# Altium schematic symbol library Blueberry_sch.SchLib: 78 symbols
Pins are listed as number, name and electrical type; pins without a type are passive.

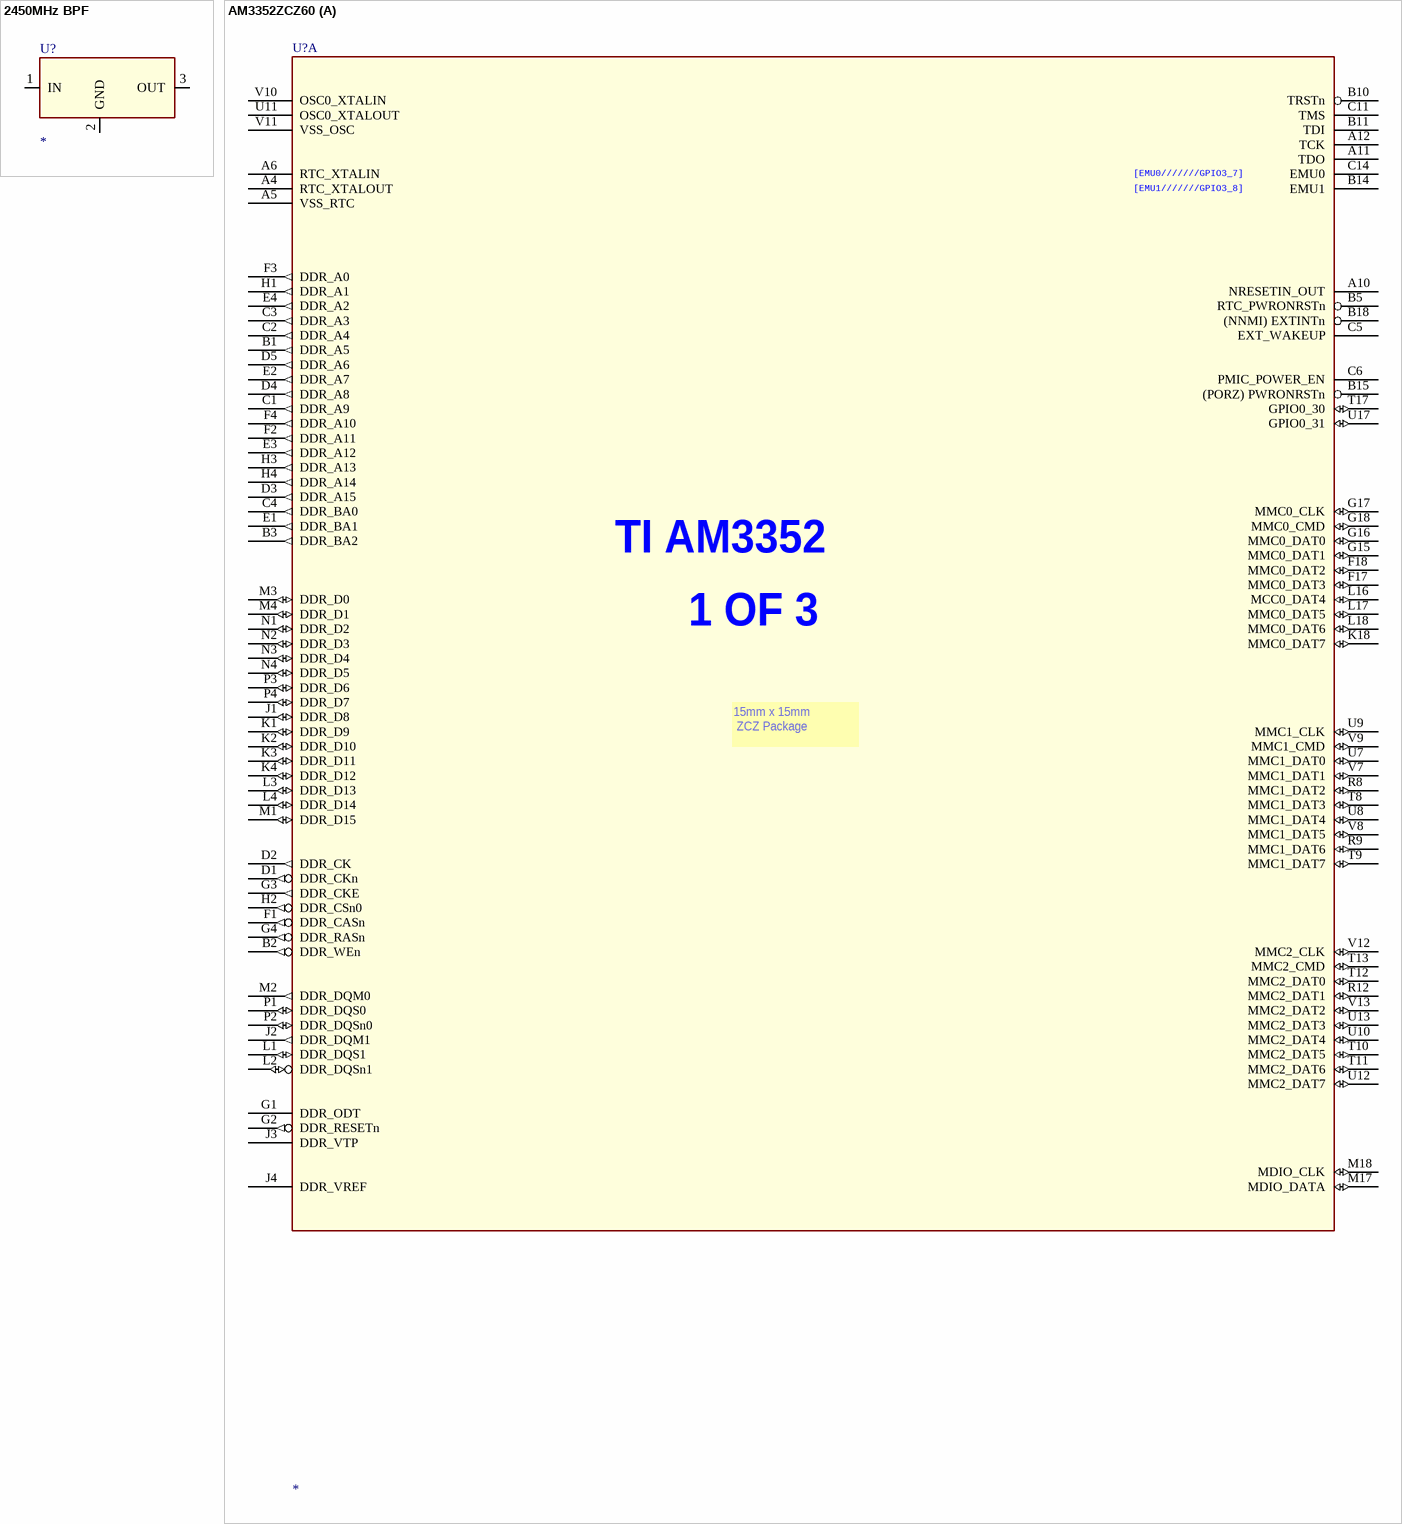
[diagram p0: symbols 2450MHz BPF to AM3352ZCZ60]

## 2450MHz BPF
designator U?
pins: 1 IN, 2 GND (power), 3 OUT

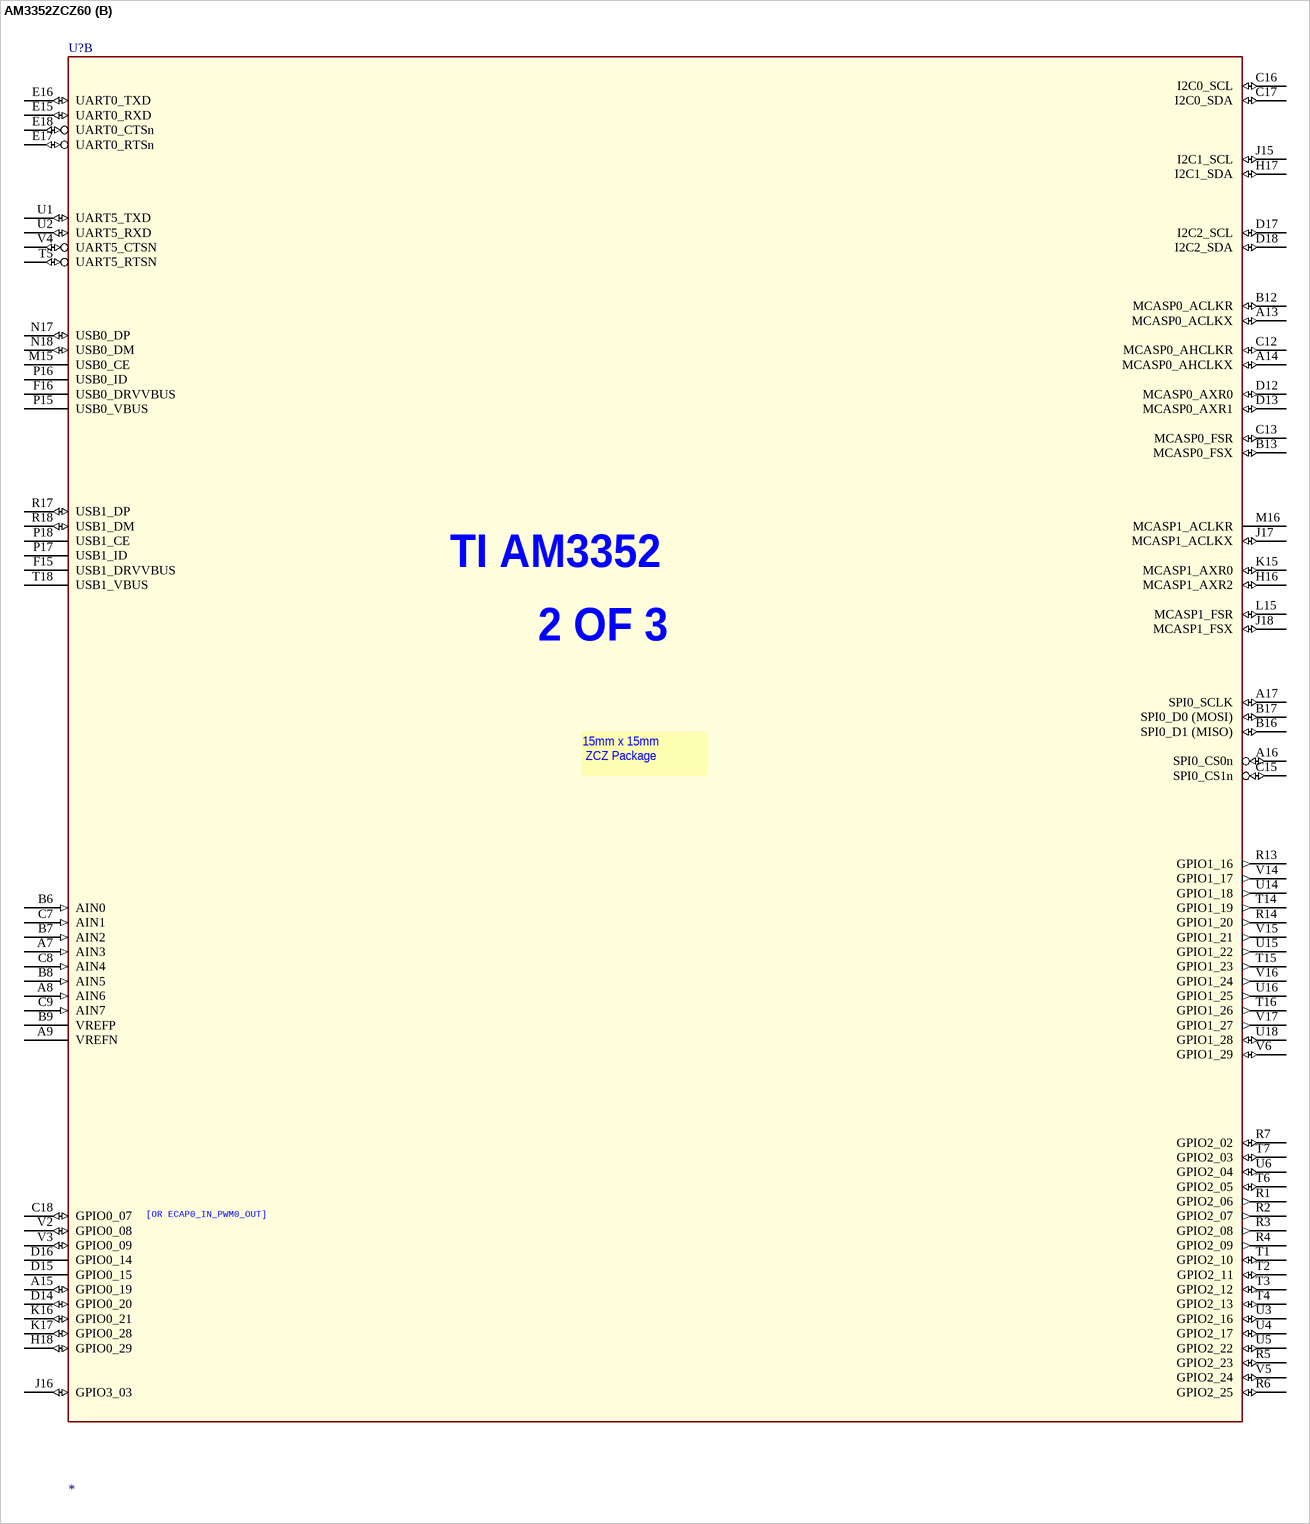
[diagram p1: symbol AM3352ZCZ60]

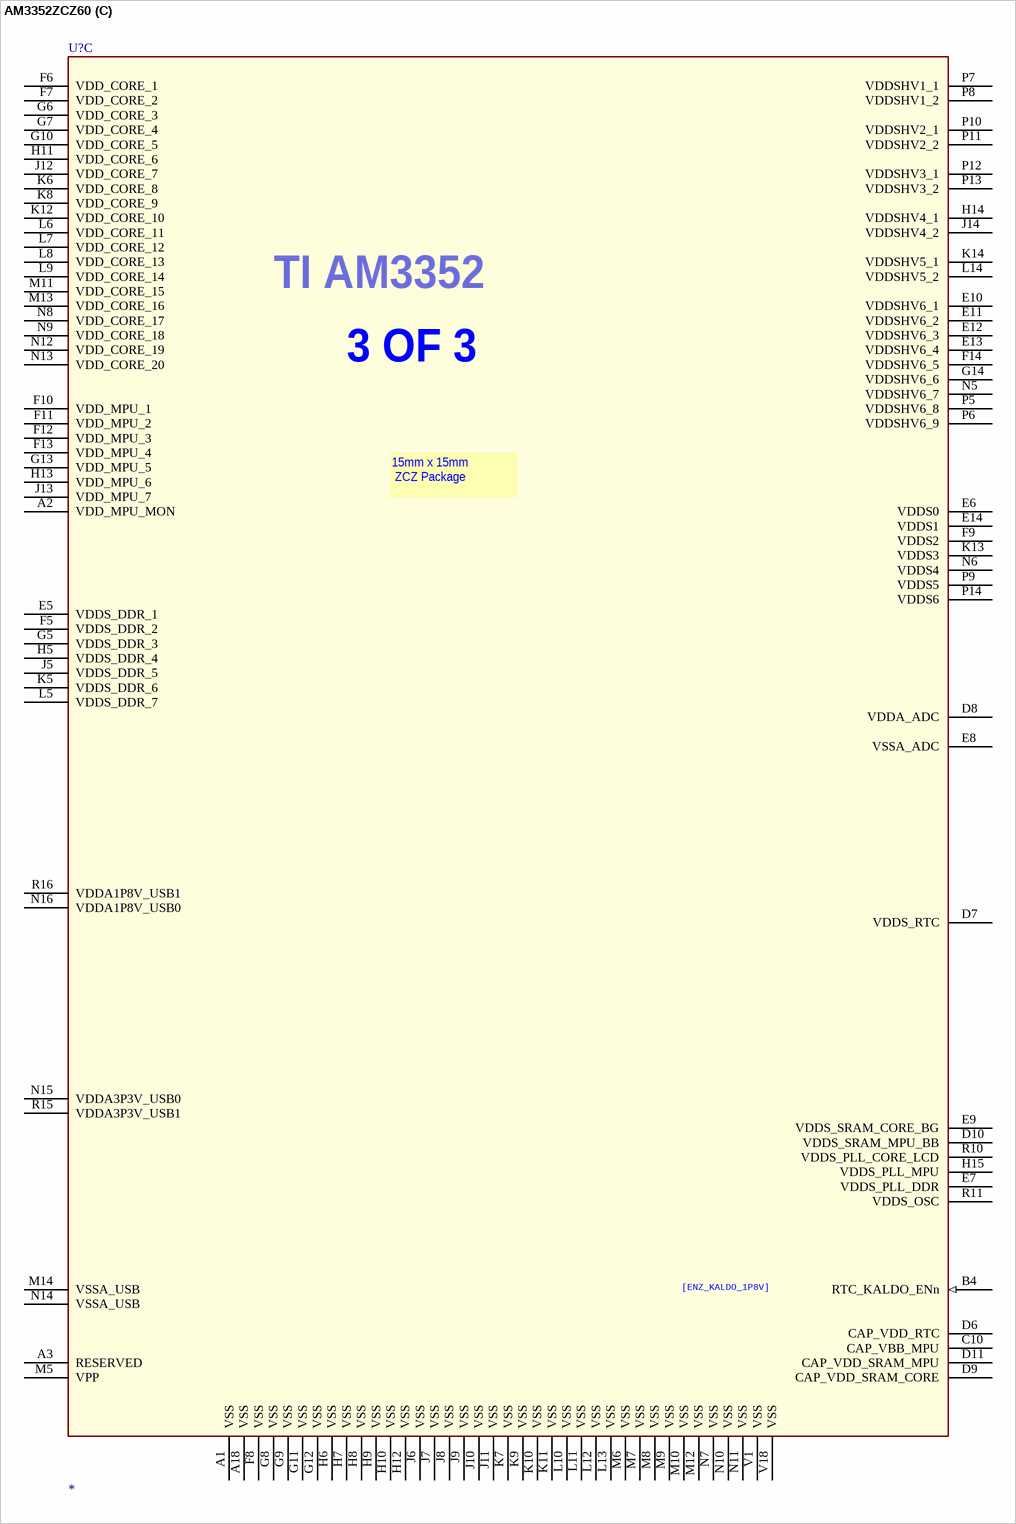
[diagram p2: symbol AM3352ZCZ60]

## AM3352ZCZ60
designator U?
SubArctic Cortex A8 Processor 15x15; TIIntPartnumber: 1A0242; MfrNum: AM335x 15x15 FBGA ZCE; Mfr: TI; PartName: AM335X_15x15; Cost10K: 10.00; Vendor: Arrow; Cost100: 10.00
footprint AM335x_bga_324_p80_15x15
part A pins: A4 RTC_XTALOUT, A5 VSS_RTC (power), A6 RTC_XTALIN, A10 NRESETIN_OUT, A11 TDO, A12 TCK, B1 DDR_A5 (out), B2 DDR_WEn (out), B3 DDR_BA2 (out), B5 RTC_PWRONRSTn, B10 TRSTn, B11 TDI, B14 EMU1, B15 (PORZ) PWRONRSTn, B18 (NNMI) EXTINTn, C1 DDR_A9 (out), C2 DDR_A4 (out), C3 DDR_A3 (out), C4 DDR_BA0 (out), C5 EXT_WAKEUP, C6 PMIC_POWER_EN, C11 TMS, C14 EMU0, D1 DDR_CKn (out), D2 DDR_CK (out), D3 DDR_A15 (out), D4 DDR_A8 (out), D5 DDR_A6 (out), E1 DDR_BA1 (out), E2 DDR_A7 (out), E3 DDR_A12 (out), E4 DDR_A2 (out), F1 DDR_CASn (out), F2 DDR_A11 (out), F3 DDR_A0 (out), F4 DDR_A10 (out), F17 MMC0_DAT3 (io), F18 MMC0_DAT2 (io), G1 DDR_ODT, G2 DDR_RESETn (out), G3 DDR_CKE (out), G4 DDR_RASn (out), G15 MMC0_DAT1 (io), G16 MMC0_DAT0 (io), G17 MMC0_CLK (io), G18 MMC0_CMD (io), H1 DDR_A1 (out), H2 DDR_CSn0 (out), H3 DDR_A13 (out), H4 DDR_A14 (out), J1 DDR_D8 (io), J2 DDR_DQM1 (out), J3 DDR_VTP, J4 DDR_VREF, K1 DDR_D9 (io), K2 DDR_D10 (io), K3 DDR_D11 (io), K4 DDR_D12 (io), K18 MMC0_DAT7 (io), L1 DDR_DQS1 (io), L2 DDR_DQSn1 (io), L3 DDR_D13 (io), L4 DDR_D14 (io), L16 MCC0_DAT4 (io), L17 MMC0_DAT5 (io), L18 MMC0_DAT6 (io), M1 DDR_D15 (io), M2 DDR_DQM0 (out), M3 DDR_D0 (io), M4 DDR_D1 (io), M17 MDIO_DATA (io), M18 MDIO_CLK (io), N1 DDR_D2 (io), N2 DDR_D3 (io), N3 DDR_D4 (io), N4 DDR_D5 (io), P1 DDR_DQS0 (io), P2 DDR_DQSn0 (io), P3 DDR_D6 (io), P4 DDR_D7 (io), R8 MMC1_DAT2 (io), R9 MMC1_DAT6 (io), R12 MMC2_DAT1 (io), T8 MMC1_DAT3 (io), T9 MMC1_DAT7 (io), T10 MMC2_DAT5 (io), T11 MMC2_DAT6 (io), T12 MMC2_DAT0 (io), T13 MMC2_CMD (io), T17 GPIO0_30 (io), U7 MMC1_DAT0 (io), U8 MMC1_DAT4 (io), U9 MMC1_CLK (io), U10 MMC2_DAT4 (io), U11 OSC0_XTALOUT, U12 MMC2_DAT7 (io), U13 MMC2_DAT3 (io), U17 GPIO0_31 (io), V7 MMC1_DAT1 (io), V8 MMC1_DAT5 (io), V9 MMC1_CMD (io), V10 OSC0_XTALIN, V11 VSS_OSC (power), V12 MMC2_CLK (io), V13 MMC2_DAT2 (io)
part B pins: A7 AIN3 (in), A8 AIN6 (in), A9 VREFN, A13 MCASP0_ACLKX (io), A14 MCASP0_AHCLKX (io), A15 GPIO0_19 (io), A16 SPI0_CS0n (io), A17 SPI0_SCLK (io), B6 AIN0 (in), B7 AIN2 (in), B8 AIN5 (in), B9 VREFP, B12 MCASP0_ACLKR (io), B13 MCASP0_FSX (io), B16 SPI0_D1 (MISO) (io), B17 SPI0_D0 (MOSI) (io), C7 AIN1 (in), C8 AIN4 (in), C9 AIN7 (in), C12 MCASP0_AHCLKR (io), C13 MCASP0_FSR (io), C15 SPI0_CS1n (io), C16 I2C0_SCL (io), C17 I2C0_SDA (io), C18 GPIO0_07 (io), D12 MCASP0_AXR0 (io), D13 MCASP0_AXR1 (io), D14 GPIO0_20 (io), D15 GPIO0_15, D16 GPIO0_14, D17 I2C2_SCL (io), D18 I2C2_SDA (io), E15 UART0_RXD (io), E16 UART0_TXD (io), E17 UART0_RTSn (io), E18 UART0_CTSn (io), F15 USB1_DRVVBUS, F16 USB0_DRVVBUS, H16 MCASP1_AXR2 (io), H17 I2C1_SDA (io), H18 GPIO0_29 (io), J15 I2C1_SCL (io), J16 GPIO3_03 (io), J17 MCASP1_ACLKX (io), J18 MCASP1_FSX (io), K15 MCASP1_AXR0 (io), K16 GPIO0_21 (io), K17 GPIO0_28 (io), L15 MCASP1_FSR (io), M15 USB0_CE, M16 MCASP1_ACLKR, N17 USB0_DP (io), N18 USB0_DM (io), P15 USB0_VBUS, P16 USB0_ID, P17 USB1_ID, P18 USB1_CE, R1 GPIO2_06 (out), R2 GPIO2_07 (out), R3 GPIO2_08 (out), R4 GPIO2_09 (out), R5 GPIO2_23 (io), R6 GPIO2_25 (io), R7 GPIO2_02 (io), R13 GPIO1_16 (out), R14 GPIO1_20 (out), R17 USB1_DP (io), R18 USB1_DM (io), T1 GPIO2_10 (io), T2 GPIO2_11 (io), T3 GPIO2_12 (io), T4 GPIO2_13 (io), T5 UART5_RTSN (io), T6 GPIO2_05 (io), T7 GPIO2_03 (io), T14 GPIO1_19 (out), T15 GPIO1_23 (out), T16 GPIO1_26 (out), T18 USB1_VBUS, U1 UART5_TXD (io), U2 UART5_RXD (io), U3 GPIO2_16 (io), U4 GPIO2_17 (io), U5 GPIO2_22 (io), U6 GPIO2_04 (io), U14 GPIO1_18 (out), U15 GPIO1_22 (out), U16 GPIO1_25 (out), U18 GPIO1_28 (io), V2 GPIO0_08 (io), V3 GPIO0_09 (io), V4 UART5_CTSN (io), V5 GPIO2_24 (io), V6 GPIO1_29 (io), V14 GPIO1_17 (out), V15 GPIO1_21 (out), V16 GPIO1_24 (out), V17 GPIO1_27 (out)
part C pins: A1 VSS (power), A2 VDD_MPU_MON, A3 RESERVED, A18 VSS (power), B4 RTC_KALDO_ENn (in), C10 CAP_VBB_MPU, D6 CAP_VDD_RTC (power), D7 VDDS_RTC (power), D8 VDDA_ADC (power), D9 CAP_VDD_SRAM_CORE (power), D10 VDDS_SRAM_MPU_BB (power), D11 CAP_VDD_SRAM_MPU (power), E5 VDDS_DDR_1 (power), E6 VDDS0, E7 VDDS_PLL_DDR (power), E8 VSSA_ADC (power), E9 VDDS_SRAM_CORE_BG (power), E10 VDDSHV6_1, E11 VDDSHV6_2, E12 VDDSHV6_3, E13 VDDSHV6_4, E14 VDDS1, F5 VDDS_DDR_2 (power), F6 VDD_CORE_1 (power), F7 VDD_CORE_2 (power), F8 VSS (power), F9 VDDS2, F10 VDD_MPU_1 (power), F11 VDD_MPU_2 (power), F12 VDD_MPU_3 (power), F13 VDD_MPU_4 (power), F14 VDDSHV6_5, G5 VDDS_DDR_3 (power), G6 VDD_CORE_3 (power), G7 VDD_CORE_4 (power), G8 VSS (power), G9 VSS (power), G10 VDD_CORE_5 (power), G11 VSS (power), G12 VSS (power), G13 VDD_MPU_5 (power), G14 VDDSHV6_6, H5 VDDS_DDR_4 (power), H6 VSS (power), H7 VSS (power), H8 VSS (power), H9 VSS (power), H10 VSS (power), H11 VDD_CORE_6 (power), H12 VSS (power), H13 VDD_MPU_6 (power), H14 VDDSHV4_1, H15 VDDS_PLL_MPU (power), J5 VDDS_DDR_5 (power), J6 VSS (power), J7 VSS (power), J8 VSS (power), J9 VSS (power), J10 VSS (power), J11 VSS (power), J12 VDD_CORE_7 (power), J13 VDD_MPU_7 (power), J14 VDDSHV4_2, K5 VDDS_DDR_6 (power), K6 VDD_CORE_8 (power), K7 VSS (power), K8 VDD_CORE_9 (power), K9 VSS (power), K10 VSS (power), K11 VSS (power), K12 VDD_CORE_10 (power), K13 VDDS3, K14 VDDSHV5_1, L5 VDDS_DDR_7 (power), L6 VDD_CORE_11 (power), L7 VDD_CORE_12 (power), L8 VDD_CORE_13 (power), L9 VDD_CORE_14 (power), L10 VSS (power), L11 VSS (power), L12 VSS (power), L13 VSS (power), L14 VDDSHV5_2, M5 VPP (power), M6 VSS (power), M7 VSS (power), M8 VSS (power), M9 VSS (power), M10 VSS (power), M11 VDD_CORE_15 (power), M12 VSS (power), M13 VDD_CORE_16 (power), M14 VSSA_USB (power), N5 VDDSHV6_7, N6 VDDS4, N7 VSS (power), N8 VDD_CORE_17 (power), N9 VDD_CORE_18 (power), N10 VSS (power), N11 VSS (power), N12 VDD_CORE_19 (power), N13 VDD_CORE_20 (power), N14 VSSA_USB (power), N15 VDDA3P3V_USB0 (power), N16 VDDA1P8V_USB0 (power), P5 VDDSHV6_8, P6 VDDSHV6_9, P7 VDDSHV1_1, P8 VDDSHV1_2, P9 VDDS5, P10 VDDSHV2_1, P11 VDDSHV2_2, P12 VDDSHV3_1, P13 VDDSHV3_2, P14 VDDS6, R10 VDDS_PLL_CORE_LCD (power), R11 VDDS_OSC (power), R15 VDDA3P3V_USB1 (power), R16 VDDA1P8V_USB1 (power), V1 VSS (power), V18 VSS (power)
part A text: [EMU0///////GPIO3_7]; [EMU1///////GPIO3_8]; TI AM3352; 1 OF 3; 15mm x 15mm / ZCZ Package
part B text: TI AM3352; 2 OF 3; 15mm x 15mm / ZCZ Package; [OR ECAP0_IN_PWM0_OUT]
part C text: TI AM3352; 3 OF 3; 15mm x 15mm / ZCZ Package; [ENZ_KALDO_1P8V]

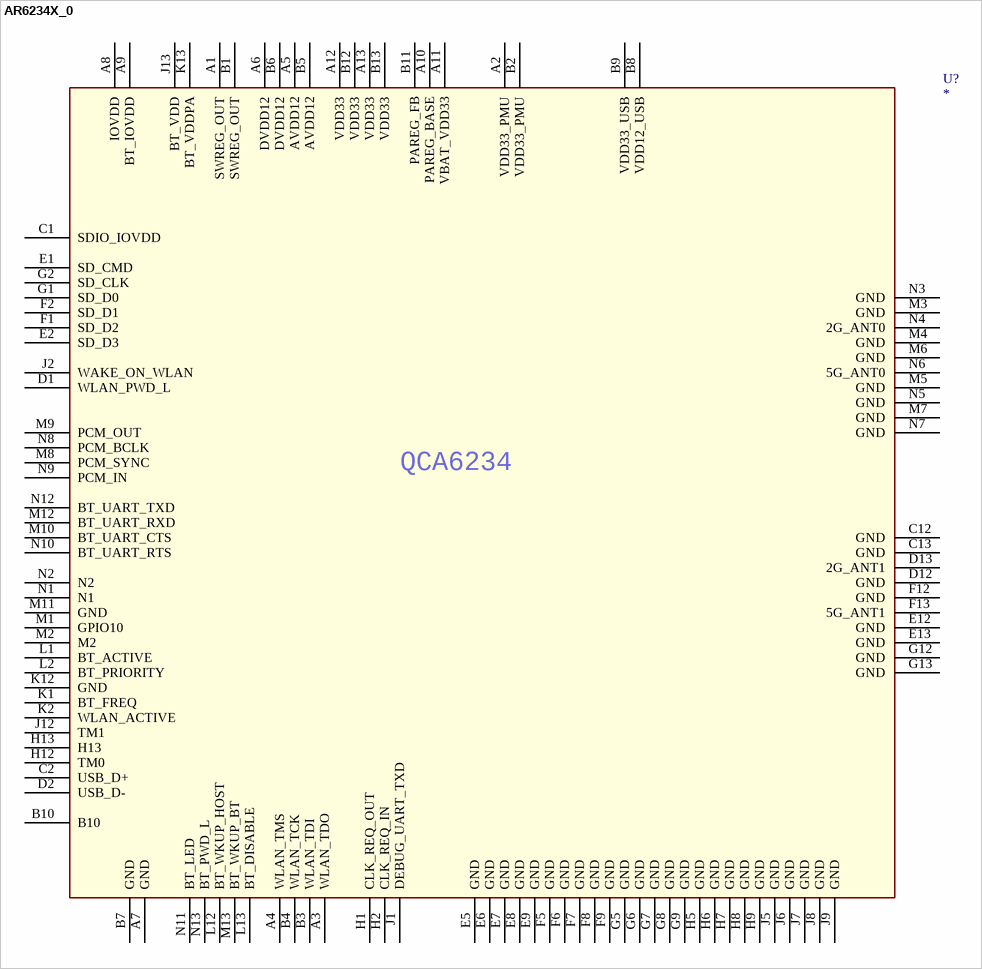
[diagram p3: symbol AR6234X_0]

## AR6234X_0
designator U?
pins: A1 SWREG_OUT (power), A2 VDD33_PMU (power), A3 WLAN_TDO, A4 WLAN_TMS, A5 AVDD12 (power), A6 DVDD12 (power), A7 GND (power), A8 IOVDD (power), A9 BT_IOVDD (power), A10 PAREG_BASE, A11 VBAT_VDD33 (power), A12 VDD33 (power), A13 VDD33 (power), B1 SWREG_OUT (power), B2 VDD33_PMU (power), B3 WLAN_TDI, B4 WLAN_TCK, B5 AVDD12 (power), B6 DVDD12 (power), B7 GND (power), B8 VDD12_USB (power), B9 VDD33_USB (power), B10, B11 PAREG_FB (power), B12 VDD33 (power), B13 VDD33 (power), C1 SDIO_IOVDD (power), C2 USB_D+, C12 GND (power), C13 GND (power), D1 WLAN_PWD_L, D2 USB_D-, D12 GND (power), D13 2G_ANT1, E1 SD_CMD, E2 SD_D3, E5 GND (power), E6 GND (power), E7 GND (power), E8 GND (power), E9 GND (power), E12 GND (power), E13 GND (power), F1 SD_D2, F2 SD_D1, F5 GND (power), F6 GND (power), F7 GND (power), F8 GND (power), F9 GND (power), F12 GND (power), F13 5G_ANT1, G1 SD_D0, G2 SD_CLK, G5 GND (power), G6 GND (power), G7 GND (power), G8 GND (power), G9 GND (power), G12 GND (power), G13 GND (power), H1 CLK_REQ_OUT, H2 CLK_REQ_IN, H5 GND (power), H6 GND (power), H7 GND (power), H8 GND (power), H9 GND (power), H12 TM0, H13, J1 DEBUG_UART_TXD, J2 WAKE_ON_WLAN, J5 GND (power), J6 GND (power), J7 GND (power), J8 GND (power), J9 GND (power), J12 TM1, J13 BT_VDD (power), K1 BT_FREQ, K2 WLAN_ACTIVE, K12 GND (power), K13 BT_VDDPA (power), L1 BT_ACTIVE, L2 BT_PRIORITY, L12 BT_WKUP_HOST, L13 BT_DISABLE, M1 GPIO10, M2, M3 GND (power), M4 GND (power), M5 GND (power), M6 GND (power), M7 GND (power), M8 PCM_SYNC, M9 PCM_OUT, M10 BT_UART_CTS, M11 GND (power), M12 BT_UART_RXD, M13 BT_WKUP_BT, N1, N2, N3 GND (power), N4 2G_ANT0, N5 GND (power), N6 5G_ANT0, N7 GND (power), N8 PCM_BCLK, N9 PCM_IN, N10 BT_UART_RTS, N11 BT_LED, N12 BT_UART_TXD, N13 BT_PWD_L
text: QCA6234

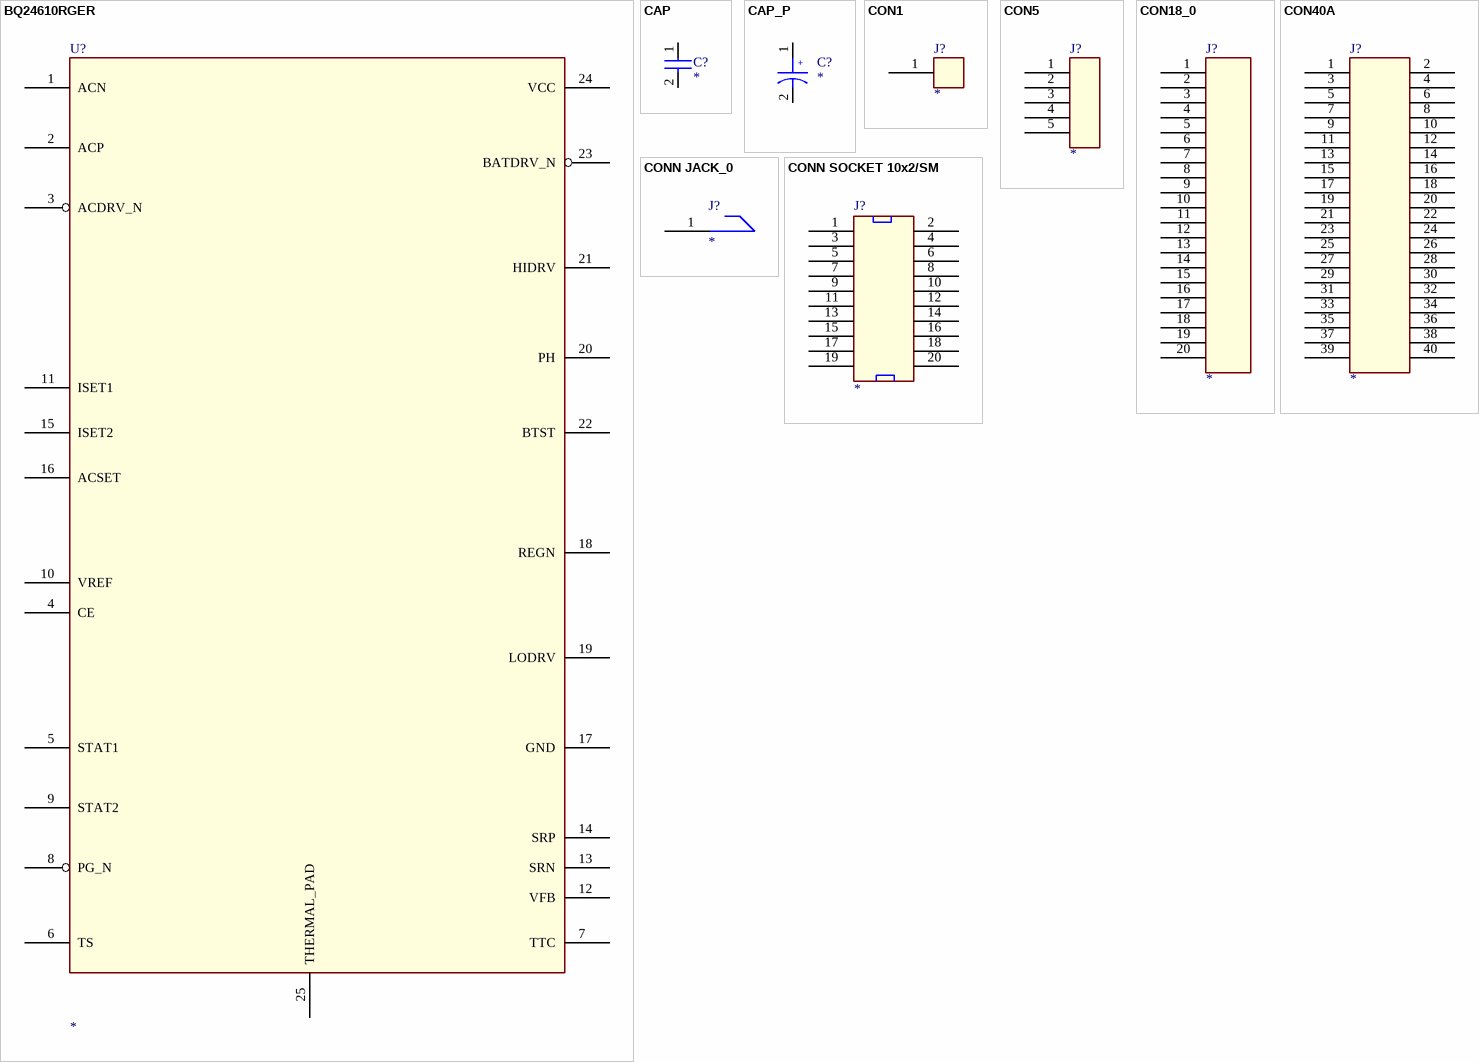
[diagram p4: symbols BQ24610RGER to CONN SOCKET 10x2/SM]

## BQ24610RGER
designator U?
pins: 1 ACN, 2 ACP, 3 ACDRV_N, 4 CE, 5 STAT1, 6 TS, 7 TTC, 8 PG_N, 9 STAT2, 10 VREF, 11 ISET1, 12 VFB, 13 SRN, 14 SRP, 15 ISET2, 16 ACSET, 17 GND, 18 REGN, 19 LODRV, 20 PH, 21 HIDRV, 22 BTST, 23 BATDRV_N, 24 VCC, 25 THERMAL_PAD

## CAP
designator C?
pins: 1, 2

## CAP_P
designator C?
pins: 1, 2
text: +

## CON1
designator J?
pins: 1

## CON5
designator J?
pins: 1, 2, 3, 4, 5

## CON18_0
designator J?
pins: 1, 2, 3, 4, 5, 6, 7, 8, 9, 10, 11, 12, 13, 14, 15, 16, 17, 18, 19, 20

## CON40A
designator J?
pins: 1, 2, 3, 4, 5, 6, 7, 8, 9, 10, 11, 12, 13, 14, 15, 16, 17, 18, 19, 20, 21, 22, 23, 24, 25, 26, 27, 28, 29, 30, 31, 32, 33, 34, 35, 36, 37, 38, 39, 40

## CONN JACK_0
designator J?
pins: 1

## CONN SOCKET 10x2/SM
designator J?
pins: 1, 2 11, 3 2, 4 12, 5 3, 6 13, 7 4, 8 14, 9 5, 10 15, 11 6, 12 16, 13 7, 14 17, 15 8, 16 18, 17 9, 18 19, 19 10, 20

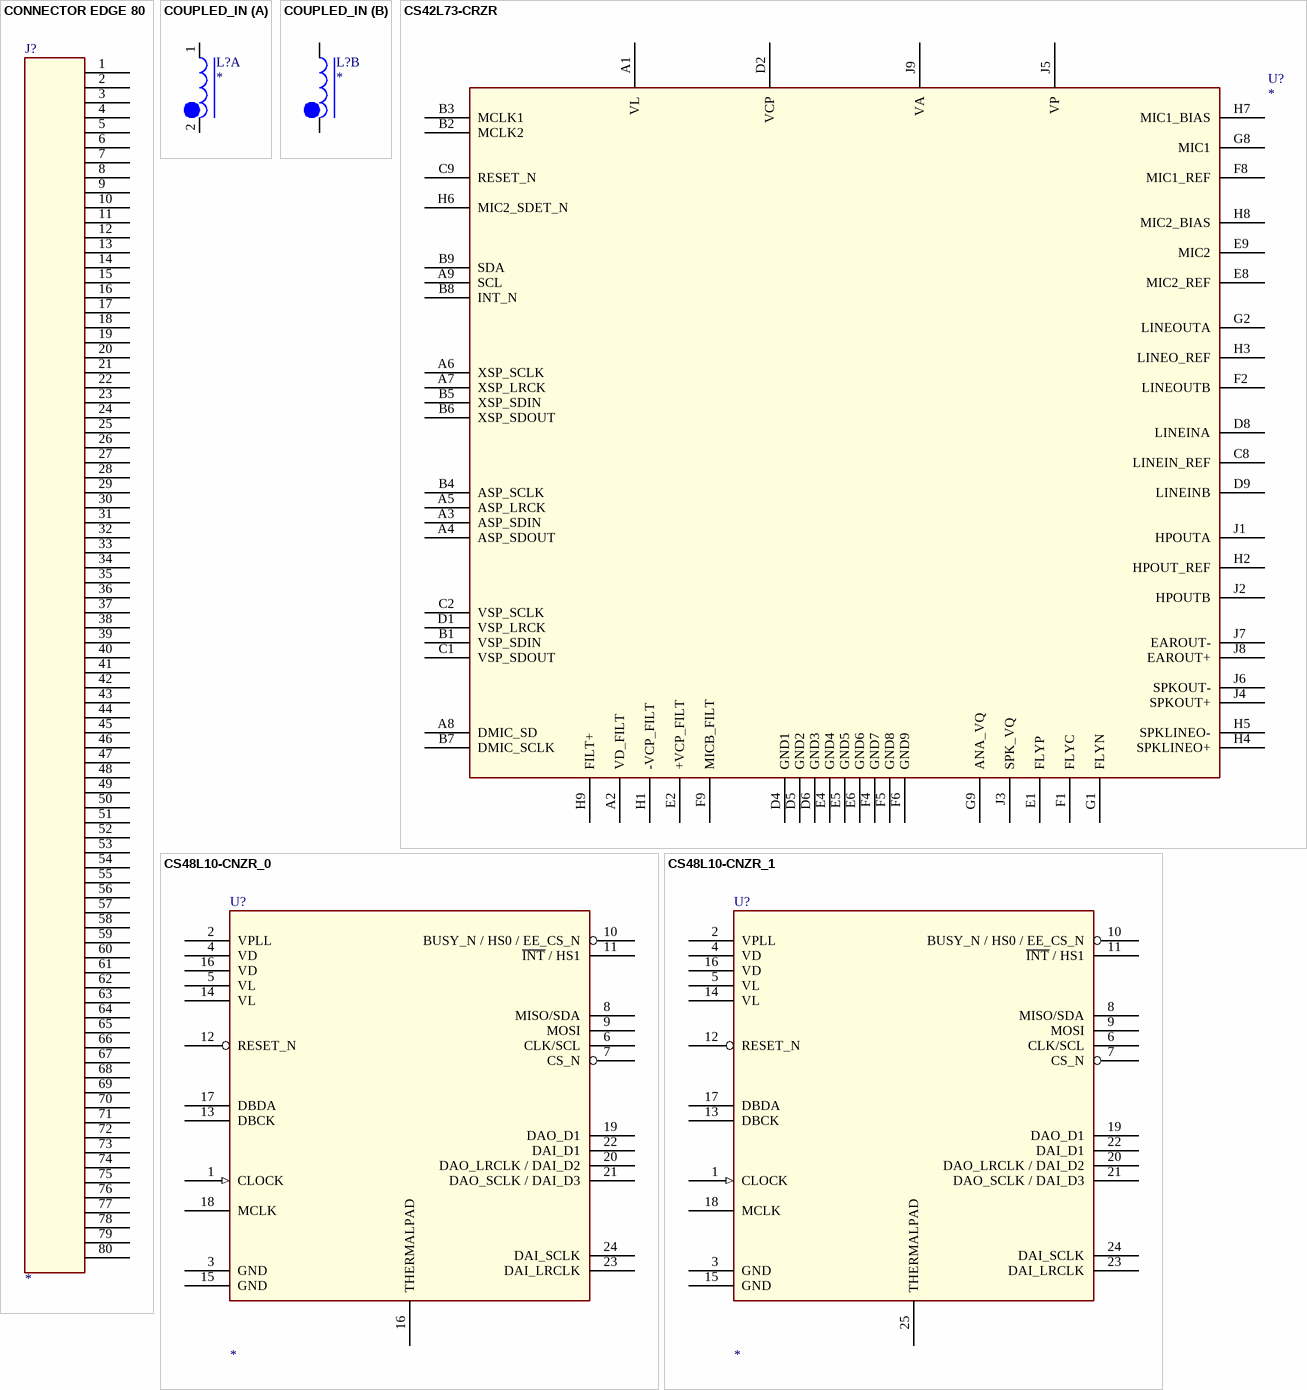
[diagram p5: symbols CONNECTOR EDGE 80 to CS48L10-CNZR_1]

## CONNECTOR EDGE 80
designator J?
pins: 1, 2, 3, 4, 5, 6, 7, 8, 9, 10, 11, 12, 13, 14, 15, 16, 17, 18, 19, 20, 21, 22, 23, 24, 25, 26, 27, 28, 29, 30, 31, 32, 33, 34, 35, 36, 37, 38, 39, 40, 41, 42, 43, 44, 45, 46, 47, 48, 49, 50, 51, 52, 53, 54, 55, 56, 57, 58, 59, 60, 61, 62, 63, 64, 65, 66, 67, 68, 69, 70, 71, 72, 73, 74, 75, 76, 77, 78, 79, 80

## COUPLED_IN
designator L?
part A pins: 1, 2
part B pins: 1, 2

## CS42L73-CRZR
designator U?
pins: A1 VL (power), A2 VD_FILT, A3 ASP_SDIN, A4 ASP_SDOUT, A5 ASP_LRCK, A6 XSP_SCLK, A7 XSP_LRCK, A8 DMIC_SD, A9 SCL, B1 VSP_SDIN, B2 MCLK2, B3 MCLK1, B4 ASP_SCLK, B5 XSP_SDIN, B6 XSP_SDOUT, B7 DMIC_SCLK, B8 INT_N, B9 SDA, C1 VSP_SDOUT, C2 VSP_SCLK, C8 LINEIN_REF, C9 RESET_N, D1 VSP_LRCK, D2 VCP (power), D4 GND1, D5 GND2, D6 GND3, D8 LINEINA, D9 LINEINB, E1 FLYP, E2 +VCP_FILT, E4 GND4, E5 GND5, E6 GND6, E8 MIC2_REF, E9 MIC2, F1 FLYC, F2 LINEOUTB, F4 GND7, F5 GND8, F6 GND9, F8 MIC1_REF, F9 MICB_FILT, G1 FLYN, G2 LINEOUTA, G8 MIC1, G9 ANA_VQ, H1 -VCP_FILT, H2 HPOUT_REF, H3 LINEO_REF, H4 SPKLINEO+, H5 SPKLINEO-, H6 MIC2_SDET_N, H7 MIC1_BIAS, H8 MIC2_BIAS, H9 FILT+, J1 HPOUTA, J2 HPOUTB, J3 SPK_VQ, J4 SPKOUT+, J5 VP (power), J6 SPKOUT-, J7 EAROUT-, J8 EAROUT+, J9 VA (power)

## CS48L10-CNZR_0
designator U?
pins: 1 CLOCK (in), 2 VPLL (power), 3 GND (power), 4 VD (power), 5 VL (power), 6 CLK/SCL, 7 CS_N, 8 MISO/SDA, 9 MOSI, 10 BUSY_N / HS0 / EE_CS_N, 11 ~{INT} / HS1, 12 RESET_N, 13 DBCK, 14 VL (power), 15 GND (power), 16 VD (power), 16 THERMALPAD, 17 DBDA, 18 MCLK, 19 DAO_D1, 20 DAO_LRCLK / DAI_D2, 21 DAO_SCLK / DAI_D3, 22 DAI_D1, 23 DAI_LRCLK, 24 DAI_SCLK

## CS48L10-CNZR_1
designator U?
pins: 1 CLOCK (in), 2 VPLL (power), 3 GND (power), 4 VD (power), 5 VL (power), 6 CLK/SCL, 7 CS_N, 8 MISO/SDA, 9 MOSI, 10 BUSY_N / HS0 / EE_CS_N, 11 ~{INT} / HS1, 12 RESET_N, 13 DBCK, 14 VL (power), 15 GND (power), 16 VD (power), 17 DBDA, 18 MCLK, 19 DAO_D1, 20 DAO_LRCLK / DAI_D2, 21 DAO_SCLK / DAI_D3, 22 DAI_D1, 23 DAI_LRCLK, 24 DAI_SCLK, 25 THERMALPAD

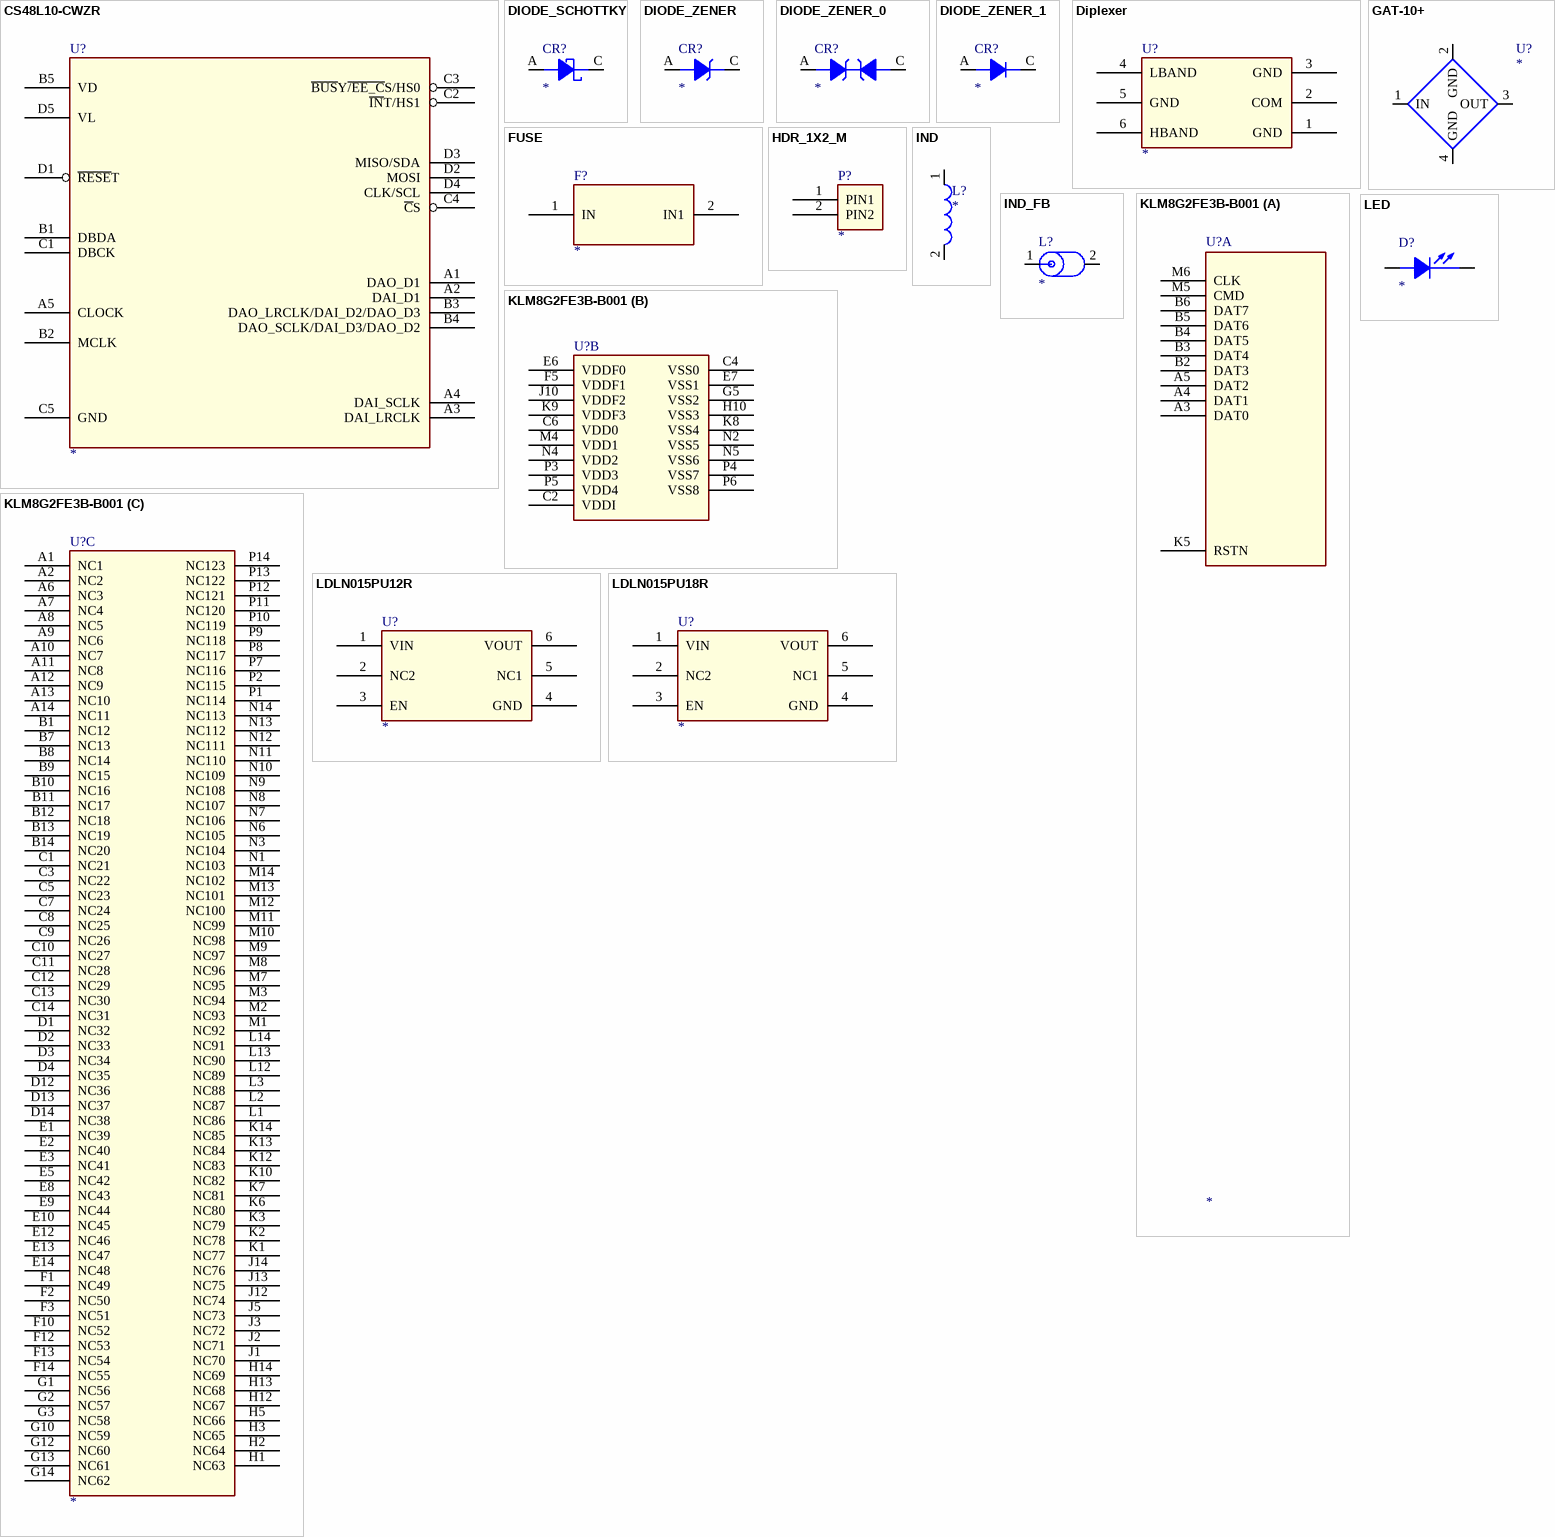
[diagram p6: symbols CS48L10-CWZR to LED]

## CS48L10-CWZR
designator U?
pins: A1 DAO_D1, A2 DAI_D1, A3 DAI_LRCLK, A4 DAI_SCLK, A5 CLOCK, B1 DBDA, B2 MCLK, B3 DAO_LRCLK/DAI_D2/DAO_D3, B4 DAO_SCLK/DAI_D3/DAO_D2, B5 VD, C1 DBCK, C2 ~{IN}T/HS1, C3 ~{BUS}Y~{/EE_C}S/HS0, C4 ~{C}S, C5 GND, D1 ~{RESE}T, D2 MOSI, D3 MISO/SDA, D4 CLK/SCL, D5 VL

## DIODE_SCHOTTKY
designator CR?
pins: A, C

## DIODE_ZENER
designator CR?
pins: A, C

## DIODE_ZENER_0
designator CR?
pins: A, C

## DIODE_ZENER_1
designator CR?
pins: A, C

## Diplexer
designator U?
pins: 1 GND (power), 2 COM, 3 GND (power), 4 LBAND, 5 GND (power), 6 HBAND

## FUSE
designator F?
pins: 1 IN, 2 IN1

## GAT-10+
designator U?
pins: 1 IN, 2 GND (power), 3 OUT, 4 GND (power)

## HDR_1X2_M
designator P?
pins: 1 PIN1, 2 PIN2

## IND
designator L?
pins: 1, 2

## IND_FB
designator L?
pins: 1, 2

## KLM8G2FE3B-B001
designator U?
SWAP_INFO: (S1+S2+S3); SPLIT_INST: TRUE
part A pins: A3 DAT0, A4 DAT1, A5 DAT2, B2 DAT3, B3 DAT4, B4 DAT5, B5 DAT6, B6 DAT7, K5 RSTN, M5 CMD, M6 CLK
part B pins: C2 VDDI, C4 VSS0, C6 VDD0, E6 VDDF0, E7 VSS1, F5 VDDF1, G5 VSS2, H10 VSS3, J10 VDDF2, K8 VSS4, K9 VDDF3, M4 VDD1, N2 VSS5, N4 VDD2, N5 VSS6, P3 VDD3, P4 VSS7, P5 VDD4, P6 VSS8
part C pins: A1 NC1, A2 NC2, A6 NC3, A7 NC4, A8 NC5, A9 NC6, A10 NC7, A11 NC8, A12 NC9, A13 NC10, A14 NC11, B1 NC12, B7 NC13, B8 NC14, B9 NC15, B10 NC16, B11 NC17, B12 NC18, B13 NC19, B14 NC20, C1 NC21, C3 NC22, C5 NC23, C7 NC24, C8 NC25, C9 NC26, C10 NC27, C11 NC28, C12 NC29, C13 NC30, C14 NC31, D1 NC32, D2 NC33, D3 NC34, D4 NC35, D12 NC36, D13 NC37, D14 NC38, E1 NC39, E2 NC40, E3 NC41, E5 NC42, E8 NC43, E9 NC44, E10 NC45, E12 NC46, E13 NC47, E14 NC48, F1 NC49, F2 NC50, F3 NC51, F10 NC52, F12 NC53, F13 NC54, F14 NC55, G1 NC56, G2 NC57, G3 NC58, G10 NC59, G12 NC60, G13 NC61, G14 NC62, H1 NC63, H2 NC64, H3 NC65, H5 NC66, H12 NC67, H13 NC68, H14 NC69, J1 NC70, J2 NC71, J3 NC72, J5 NC73, J12 NC74, J13 NC75, J14 NC76, K1 NC77, K2 NC78, K3 NC79, K6 NC80, K7 NC81, K10 NC82, K12 NC83, K13 NC84, K14 NC85, L1 NC86, L2 NC87, L3 NC88, L12 NC89, L13 NC90, L14 NC91, M1 NC92, M2 NC93, M3 NC94, M7 NC95, M8 NC96, M9 NC97, M10 NC98, M11 NC99, M12 NC100, M13 NC101, M14 NC102, N1 NC103, N3 NC104, N6 NC105, N7 NC106, N8 NC107, N9 NC108, N10 NC109, N11 NC110, N12 NC111, N13 NC112, N14 NC113, P1 NC114, P2 NC115, P7 NC116, P8 NC117, P9 NC118, P10 NC119, P11 NC120, P12 NC121, P13 NC122, P14 NC123

## LDLN015PU12R
designator U?
pins: 1 VIN, 2 NC2, 3 EN, 4 GND, 5 NC1, 6 VOUT

## LDLN015PU18R
designator U?
pins: 1 VIN, 2 NC2, 3 EN, 4 GND, 5 NC1, 6 VOUT

## LED
designator D?
pins: 1 CATHODE, 2 ANODE

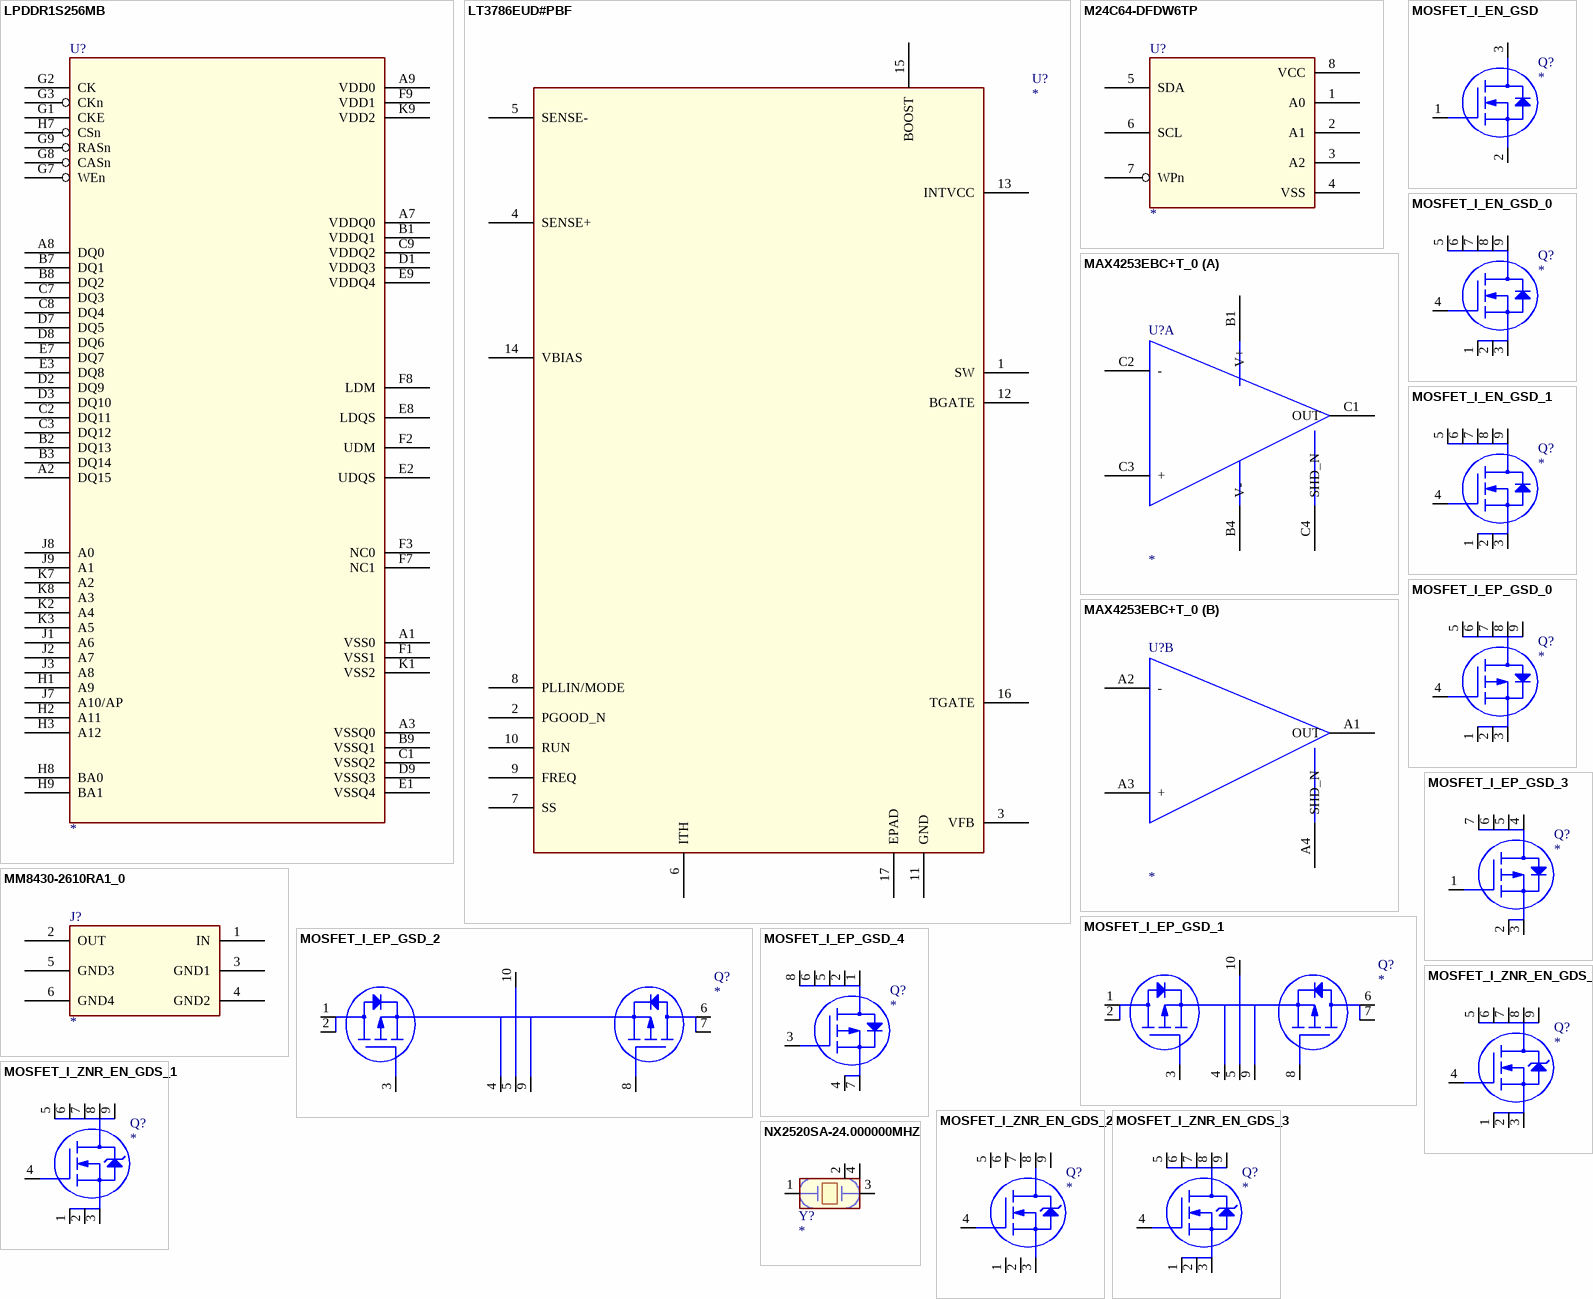
[diagram p7: symbols LPDDR1S256MB to NX2520SA-24.000000MHZ]

## LPDDR1S256MB
designator U?
pins: A1 VSS0, A2 DQ15, A3 VSSQ0, A7 VDDQ0, A8 DQ0, A9 VDD0, B1 VDDQ1, B2 DQ13, B3 DQ14, B7 DQ1, B8 DQ2, B9 VSSQ1, C1 VSSQ2, C2 DQ11, C3 DQ12, C7 DQ3, C8 DQ4, C9 VDDQ2, D1 VDDQ3, D2 DQ9, D3 DQ10, D7 DQ5, D8 DQ6, D9 VSSQ3, E1 VSSQ4, E2 UDQS, E3 DQ8, E7 DQ7, E8 LDQS, E9 VDDQ4, F1 VSS1, F2 UDM, F3 NC0, F7 NC1, F8 LDM, F9 VDD1, G1 CKE, G2 CK, G3 CKn, G7 WEn, G8 CASn, G9 RASn, H1 A9, H2 A11, H3 A12, H7 CSn, H8 BA0, H9 BA1, J1 A6, J2 A7, J3 A8, J7 A10/AP, J8 A0, J9 A1, K1 VSS2, K2 A4, K3 A5, K7 A2, K8 A3, K9 VDD2

## LT3786EUD#PBF
designator U?
pins: 1 SW, 2 PGOOD_N, 3 VFB, 4 SENSE+, 5 SENSE-, 6 ITH, 7 SS, 8 PLLIN/MODE, 9 FREQ, 10 RUN, 11 GND, 12 BGATE, 13 INTVCC, 14 VBIAS, 15 BOOST, 16 TGATE, 17 EPAD

## M24C64-DFDW6TP
designator U?
pins: 1 A0, 2 A1, 3 A2, 4 VSS, 5 SDA, 6 SCL, 7 WPn, 8 VCC

## MAX4253EBC+T_0
designator U?
part A pins: B1 V+, B4 V-, C1 OUT, C2 -, C3 +, C4 SHD_N
part B pins: A1 OUT, A2 -, A3 +, A4 SHD_N

## MM8430-2610RA1_0
designator J?
pins: 1 IN, 2 OUT, 3 GND1 (power), 4 GND2 (power), 5 GND3 (power), 6 GND4 (power)

## MOSFET_I_EN_GSD
designator Q?
pins: 1 G, 2 S, 3 D

## MOSFET_I_EN_GSD_0
designator Q?
pins: 1 S1, 2 S2, 3 S3, 4 G, 5 D1, 6 D2, 7 D3, 8 D5, 9 D6

## MOSFET_I_EN_GSD_1
designator Q?
pins: 1 S1, 2 S2, 3 S3, 4 G, 5 D1, 6 D2, 7 D3, 8 D5, 9 D6

## MOSFET_I_EP_GSD_0
designator Q?
pins: 1 S1, 2 S2, 3 S3, 4 G, 5 D1, 6 D2, 7 D3, 8 D4, 9 D5

## MOSFET_I_EP_GSD_1
designator Q?
pins: 1 D1, 2 D2, 3 G1, 4 S1, 5 S2, 6 D3, 7 D4, 8 G2, 9 S3, 10 S4

## MOSFET_I_EP_GSD_2
designator Q?
pins: 1 D1, 2 D2, 3 G1, 4 S1, 5 S2, 6 D3, 7 D4, 8 G2, 9 S3, 10 S4

## MOSFET_I_EP_GSD_3
designator Q?
pins: 1 G, 2 S1, 3 S2, 4 D1, 5 D2, 6 D3, 7 D4

## MOSFET_I_EP_GSD_4
designator Q?
pins: 1 D1, 2 D2, 3 G, 4 S1, 5 D3, 6 D4, 7 S2, 8 D5

## MOSFET_I_ZNR_EN_GDS_0
designator Q?
pins: 1 S1, 2 S2, 3 S3, 4 G, 5 D1, 6 D2, 7 D3, 8 D4, 9 D5

## MOSFET_I_ZNR_EN_GDS_1
designator Q?
pins: 1 S1, 2 S2, 3 S3, 4 G, 5 D1, 6 D2, 7 D3, 8 D4, 9 D5

## MOSFET_I_ZNR_EN_GDS_2
designator Q?
pins: 1 S1, 2 S2, 3 S3, 4 G, 5 D1, 6 D2, 7 D3, 8 D4, 9 D5

## MOSFET_I_ZNR_EN_GDS_3
designator Q?
pins: 1 S1, 2 S2, 3 S3, 4 G, 5 D1, 6 D2, 7 D3, 8 D4, 9 D5

## NX2520SA-24.000000MHZ
designator Y?
pins: 1, 2 NC1, 3, 4 NC2

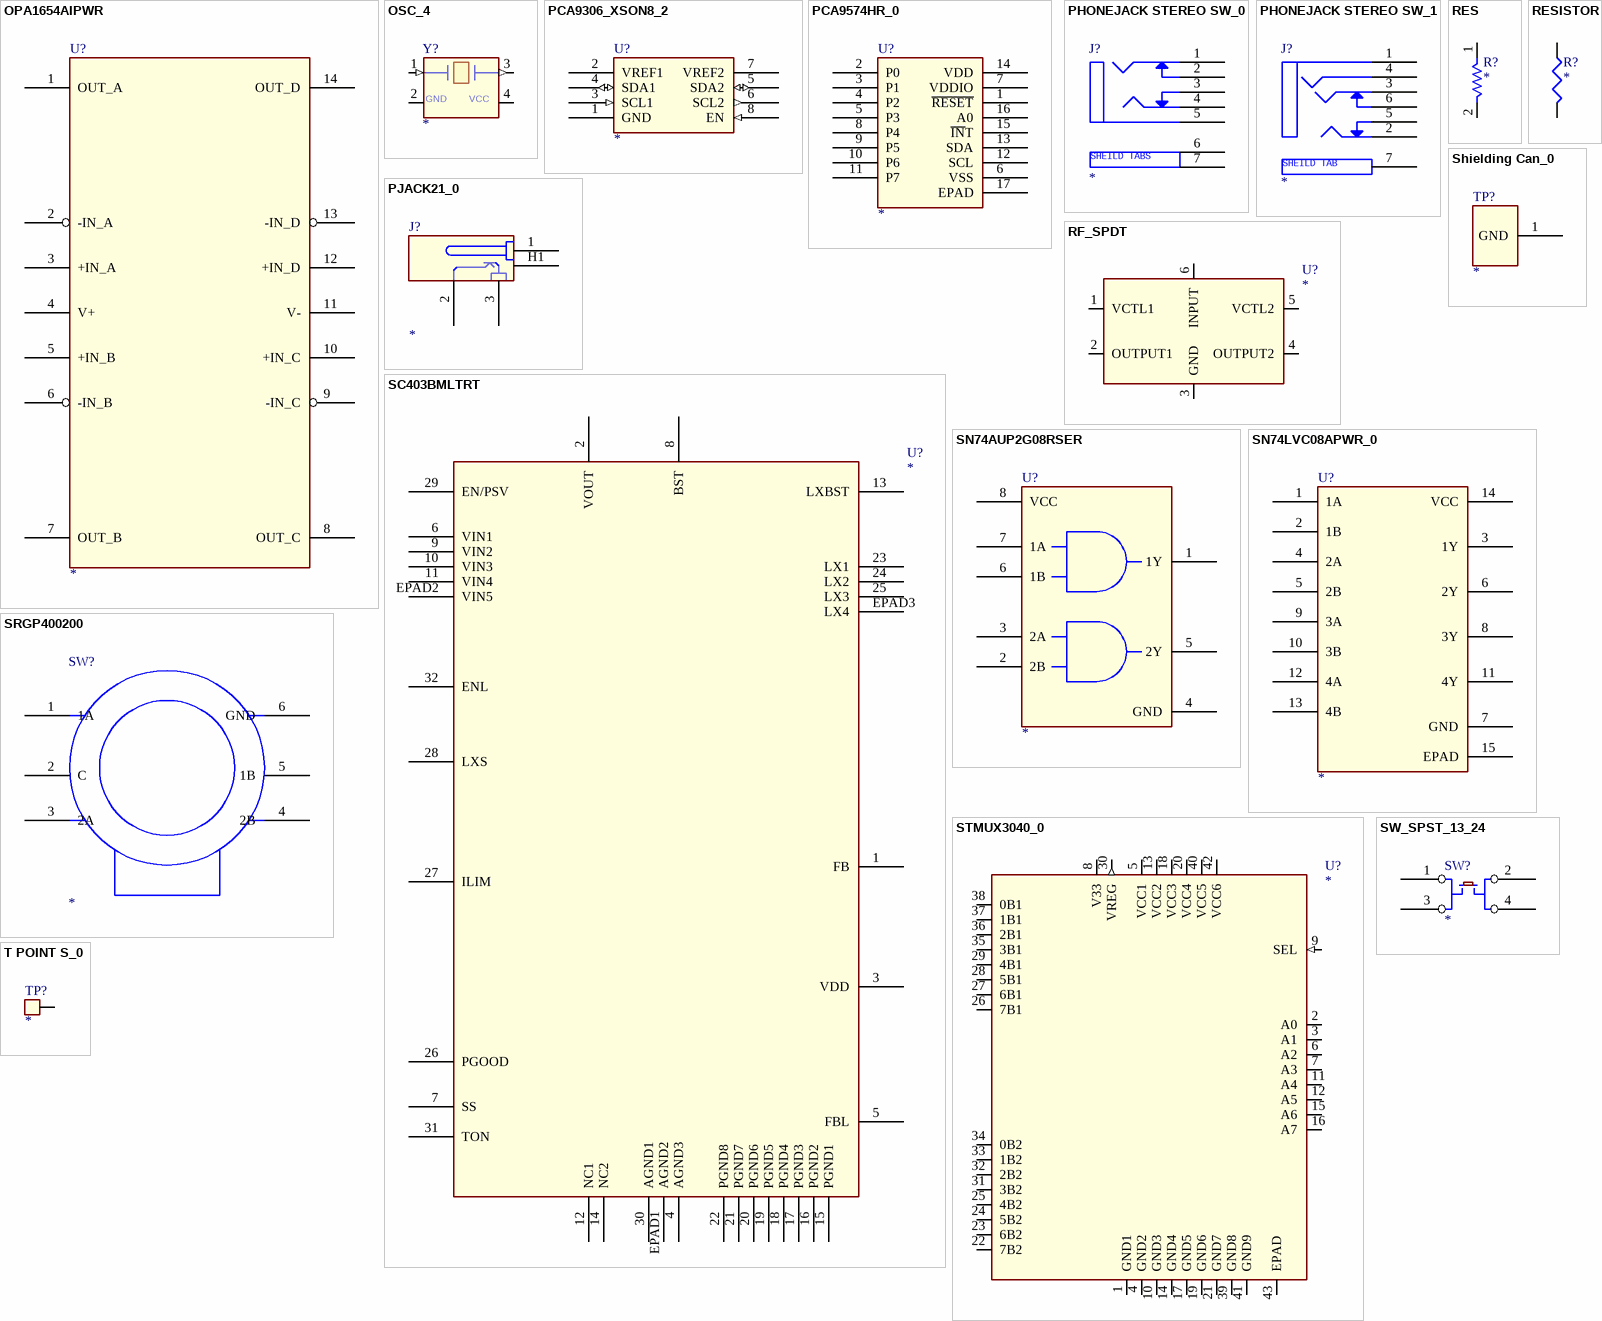
[diagram p8: symbols OPA1654AIPWR to T POINT S_0]

## OPA1654AIPWR
designator U?
pins: 1 OUT_A, 2 -IN_A, 3 +IN_A, 4 V+, 5 +IN_B, 6 -IN_B, 7 OUT_B, 8 OUT_C, 9 -IN_C, 10 +IN_C, 11 V-, 12 +IN_D, 13 -IN_D, 14 OUT_D

## OSC_4
designator Y?
pins: 1 EI (in), 2 GND (power), 3 OUTPUT (out), 4 VCC (power)

## PCA9306_XSON8_2
designator U?
pins: 1 GND (power), 2 VREF1 (power), 3 SCL1 (in), 4 SDA1 (io), 5 SDA2 (io), 6 SCL2 (out), 7 VREF2 (power), 8 EN (in)

## PCA9574HR_0
designator U?
footprint HXQFN16U
pins: 1 ~{RESET}, 2 P0, 3 P1, 4 P2, 5 P3, 6 VSS, 7 VDDIO, 8 P4, 9 P5, 10 P6, 11 P7, 12 SCL, 13 SDA, 14 VDD, 15 ~{IN}T, 16 A0, 17 EPAD

## PHONEJACK STEREO SW_0
designator J?
pins: 1 A, 2 B, 3 C, 4 D, 5 E, 6 F, 7 G
text: SHEILD TABS

## PHONEJACK STEREO SW_1
designator J?
pins: 1 SLEEVE, 2 TIP, 3 RING1, 4 RING2, 5 TIPSW, 6 RINGSW, 7 G
text: SHEILD TAB

## PJACK21_0
designator J?
pins: 1, 2, 3, H1

## RES
designator R?
pins: 1, 2

## RESISTOR
designator R?
pins: 1, 2

## RF_SPDT
designator U?
pins: 1 VCTL1, 2 OUTPUT1, 3 GND (power), 4 OUTPUT2, 5 VCTL2, 6 INPUT

## SC403BMLTRT
designator U?
pins: 1 FB, 2 VOUT, 3 VDD, 4 AGND3, 5 FBL, 6 VIN1, 7 SS, 8 BST, 9 VIN2, 10 VIN3, 11 VIN4, 12 NC1, 13 LXBST, 14 NC2, 15 PGND1, 16 PGND2, 17 PGND3, 18 PGND4, 19 PGND5, 20 PGND6, 21 PGND7, 22 PGND8, 23 LX1, 24 LX2, 25 LX3, 26 PGOOD, 27 ILIM, 28 LXS, 29 EN/PSV, 30 AGND1, 31 TON, 32 ENL, EPAD1 AGND2, EPAD2 VIN5, EPAD3 LX4

## Shielding Can_0
designator TP?
pins: 1 GND (power)

## SN74AUP2G08RSER
designator U?
pins: 1 1Y, 2 2B, 3 2A, 4 GND, 5 2Y, 6 1B, 7 1A, 8 VCC

## SN74LVC08APWR_0
designator U?
pins: 1 1A, 2 1B, 3 1Y, 4 2A, 5 2B, 6 2Y, 7 GND, 8 3Y, 9 3A, 10 3B, 11 4Y, 12 4A, 13 4B, 14 VCC, 15 EPAD

## SRGP400200
designator SW?
pins: 1 1A, 2 C, 3 2A, 4 2B, 5 1B, 6 GND

## STMUX3040_0
designator U?
pins: 1 GND1 (power), 2 A0 (io), 3 A1 (io), 4 GND2 (power), 5 VCC1 (power), 6 A2 (io), 7 A3 (io), 8 V33 (power), 9 SEL (in), 10 GND3 (power), 11 A4 (io), 12 A5 (io), 13 VCC2 (power), 14 GND4 (power), 15 A6 (io), 16 A7 (io), 17 GND5 (power), 18 VCC3 (power), 19 GND6 (power), 20 VCC4 (power), 21 GND7 (power), 22 7B2 (io), 23 6B2 (io), 24 5B2 (io), 25 4B2 (io), 26 7B1 (io), 27 6B1 (io), 28 5B1 (io), 29 4B1 (io), 30 VREG (out), 31 3B2 (io), 32 2B2 (io), 33 1B2 (io), 34 0B2 (io), 35 3B1 (io), 36 2B1 (io), 37 1B1 (io), 38 0B1 (io), 39 GND8 (power), 40 VCC5 (power), 41 GND9 (power), 42 VCC6 (power), 43 EPAD

## SW_SPST_13_24
designator SW?
pins: 1, 2, 3, 4

## T POINT S_0
designator TP?
pins: 1 TP

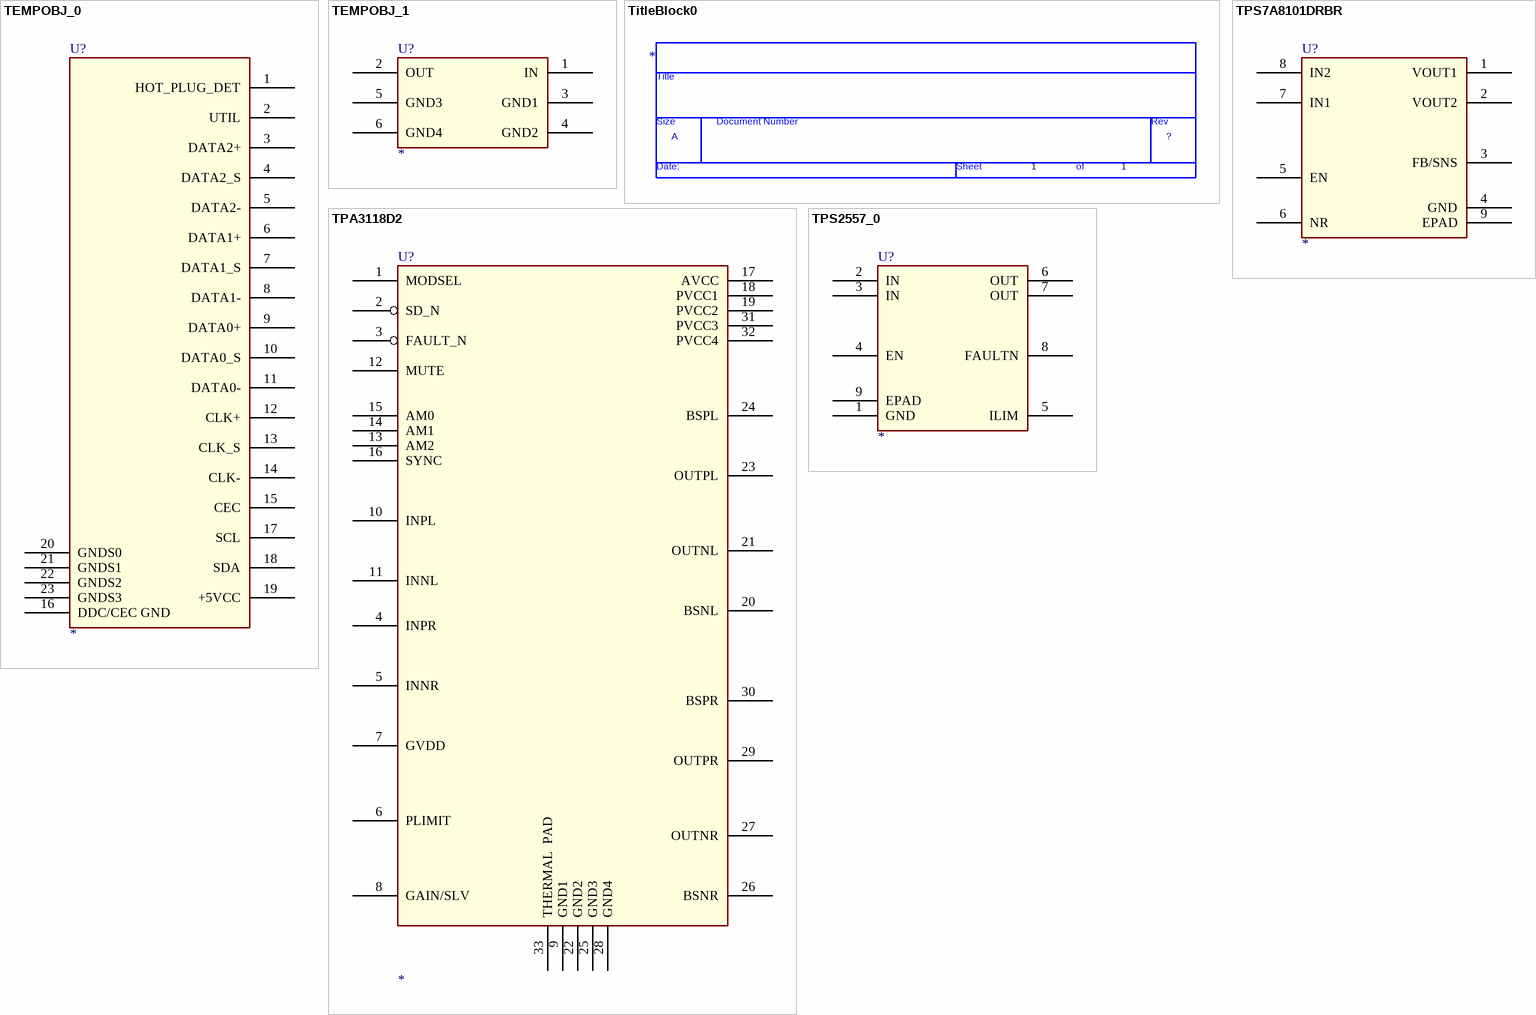
[diagram p9: symbols TEMPOBJ_0 to TPS2557_0]

## TEMPOBJ_0
designator U?
pins: 1 HOT_PLUG_DET, 2 UTIL, 3 DATA2+, 4 DATA2_S, 5 DATA2-, 6 DATA1+, 7 DATA1_S, 8 DATA1-, 9 DATA0+, 10 DATA0_S, 11 DATA0-, 12 CLK+, 13 CLK_S, 14 CLK-, 15 CEC, 16 DDC/CEC GND, 17 SCL, 18 SDA, 19 +5VCC, 20 GNDS0, 21 GNDS1, 22 GNDS2, 23 GNDS3

## TEMPOBJ_1
designator U?
pins: 1 IN, 2 OUT, 3 GND1 (power), 4 GND2 (power), 5 GND3 (power), 6 GND4 (power)

## TitleBlock0
designator *  Page Size: A  Page Number: 1  (graphical)
Page Create Date: March  8, 1995; RevCode: ?; Page Count: 1
text: Title; Size; Document Number; Rev; Date:; Sheet; of

## TPA3118D2
designator U?
pins: 1 MODSEL, 2 SD_N, 3 FAULT_N, 4 INPR, 5 INNR, 6 PLIMIT, 7 GVDD, 8 GAIN/SLV, 9 GND1, 10 INPL, 11 INNL, 12 MUTE, 13 AM2, 14 AM1, 15 AM0, 16 SYNC, 17 AVCC, 18 PVCC1, 19 PVCC2, 20 BSNL, 21 OUTNL, 22 GND2, 23 OUTPL, 24 BSPL, 25 GND3, 26 BSNR, 27 OUTNR, 28 GND4, 29 OUTPR, 30 BSPR, 31 PVCC3, 32 PVCC4, 33 THERMAL  PAD

## TPS7A8101DRBR
designator U?
pins: 1 VOUT1, 2 VOUT2, 3 FB/SNS, 4 GND, 5 EN, 6 NR, 7 IN1, 8 IN2, 9 EPAD

## TPS2557_0
designator U?
pins: 1 GND, 2 IN, 3 IN, 4 EN, 5 ILIM, 6 OUT, 7 OUT, 8 FAULTN, 9 EPAD

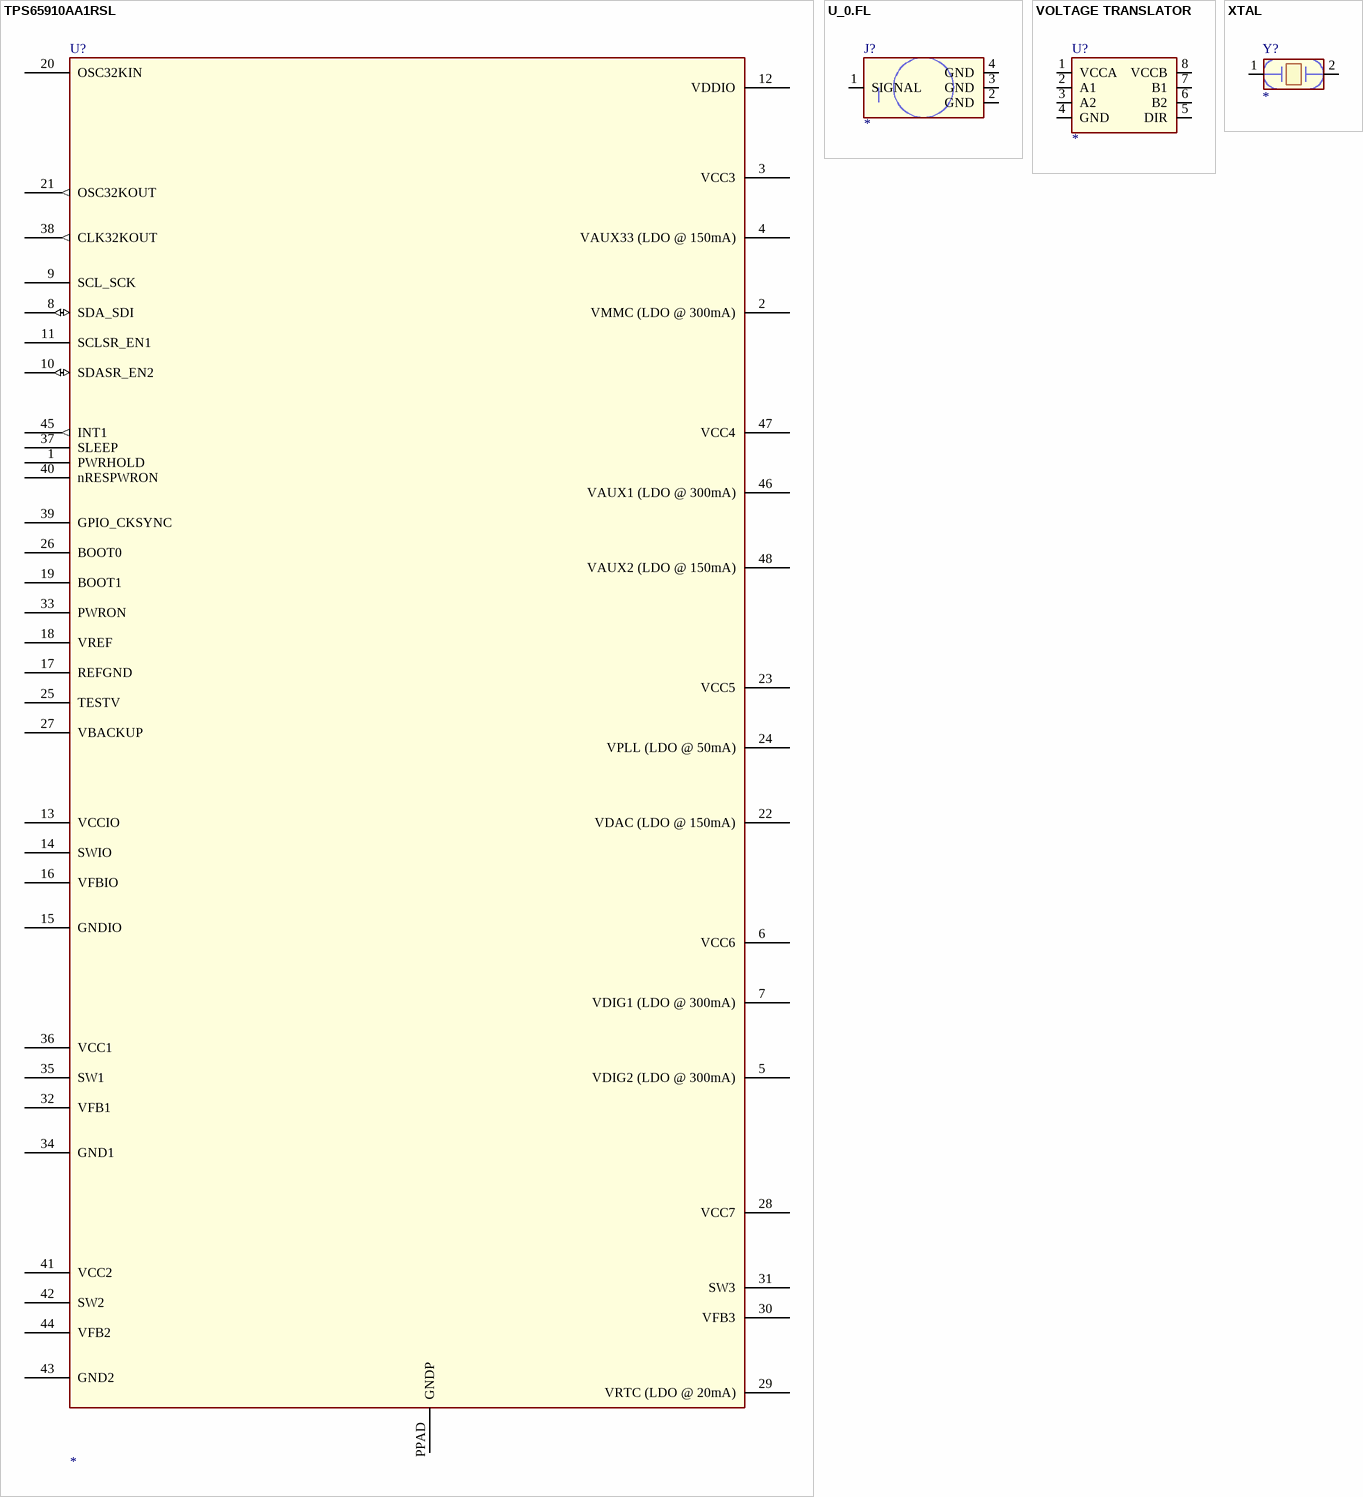
[diagram p10: symbols TPS65910AA1RSL to XTAL]

## TPS65910AA1RSL
designator U?
Integrated Power Management Unit; TIIntPartnumber: 1A0243; MfrNum: TPS65910AA1RSL; Mfr: TI; PartName: TPS65910; Cost10K: 1.00; Cost100: 1.99; Vendor: Digikey; Descriptive_Text: Integrated Power Management Unit; DescriptiveText: Integrated Power Management Unit
footprint U_48_RSL
pins: 1 PWRHOLD, 2 VMMC (LDO @ 300mA) (power), 3 VCC3 (power), 4 VAUX33 (LDO @ 150mA) (power), 5 VDIG2 (LDO @ 300mA), 6 VCC6, 7 VDIG1 (LDO @ 300mA), 8 SDA_SDI (io), 9 SCL_SCK, 10 SDASR_EN2 (io), 11 SCLSR_EN1, 12 VDDIO, 13 VCCIO (power), 14 SWIO (power), 15 GNDIO (power), 16 VFBIO, 17 REFGND (power), 18 VREF, 19 BOOT1, 20 OSC32KIN, 21 OSC32KOUT (out), 22 VDAC (LDO @ 150mA) (power), 23 VCC5 (power), 24 VPLL (LDO @ 50mA) (power), 25 TESTV, 26 BOOT0, 27 VBACKUP (power), 28 VCC7, 29 VRTC (LDO @ 20mA), 30 VFB3, 31 SW3 (power), 32 VFB1, 33 PWRON, 34 GND1 (power), 35 SW1 (power), 36 VCC1, 37 SLEEP, 38 CLK32KOUT (out), 39 GPIO_CKSYNC, 40 nRESPWRON, 41 VCC2, 42 SW2 (power), 43 GND2 (power), 44 VFB2, 45 INT1 (out), 46 VAUX1 (LDO @ 300mA) (power), 47 VCC4 (power), 48 VAUX2 (LDO @ 150mA) (power), PPAD GNDP (power)

## U_0.FL
designator J?
pins: 1 SIGNAL, 2 GND (power), 3 GND (power), 4 GND (power)

## VOLTAGE TRANSLATOR
designator U?
pins: 1 VCCA (power), 2 A1, 3 A2, 4 GND (power), 5 DIR, 6 B2, 7 B1, 8 VCCB (power)

## XTAL
designator Y?
pins: 1, 2